# EAGLE library part DPDT (library ads4)
DPDT Switch
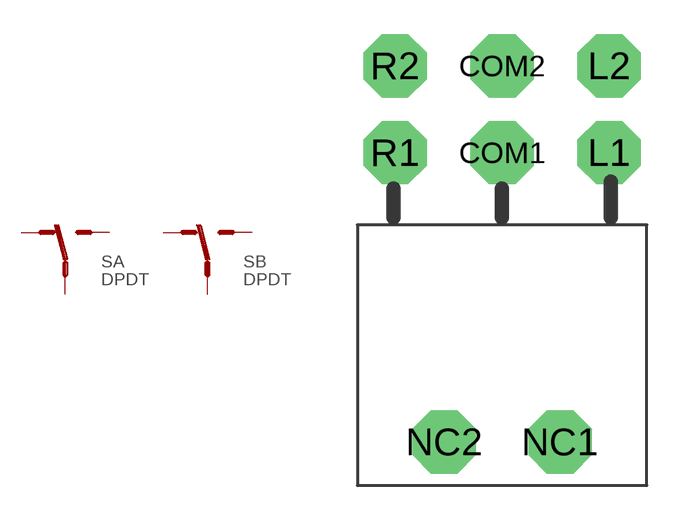
[diagram p55: symbol with the pads of DPDT-RA; footprint DPDT-RA]

Designator prefix S; gates A=SPDT B=SPDT

## DPDTDPDT-RA  [DPDT-RA]
COM1  A:COM  pas
COM2  B:COM  pas
L1  A:NC  pas
L2  B:NC  pas
R1  A:NO  pas
R2  B:NO  pas

## Footprint DPDT-RA (pad centres in mm)
DPDT Switch Right-Angle PCB Mount E-Switch 100DP1T2B4M6QE
drill 1.854 octagon: COM1 0,0; COM2 0,3.81; L1 4.699,0; L2 4.699,3.81; NC1 2.54,-12.7; NC2 -2.54,-12.7; R1 -4.699,0; R2 -4.699,3.81